# Altium footprint library PcbLib1.PcbLib: 1 footprints
Each footprint in its own frame and in the unit in brackets; x right, y up, seen from the top. Pads: shape width x height; smd on the part's side, far side on the other; paste and mask are expansions set on the pad; w line width, h text height; cw(c..) or ccw(c..) is an arc to the next point about the centre after c.
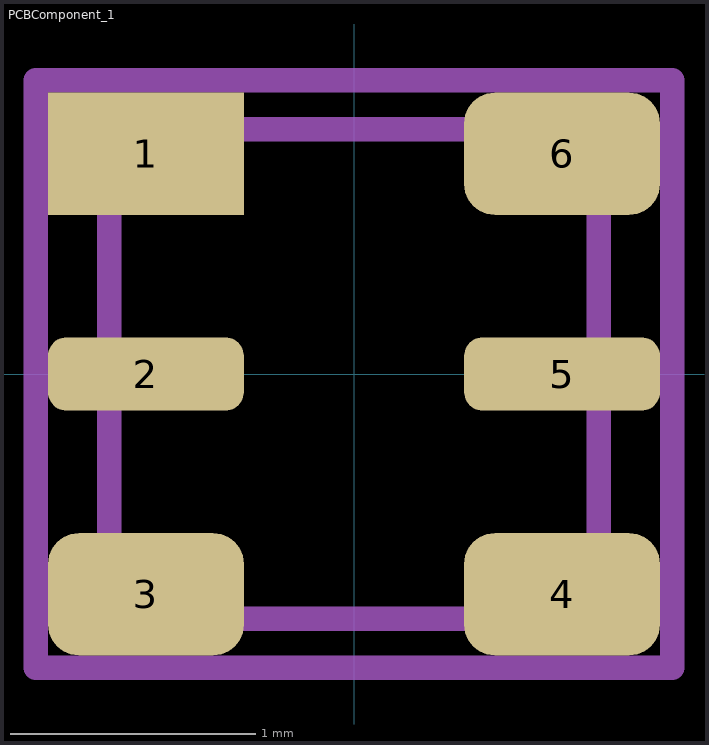
[diagram p0: the footprint, top view; thin cyan lines are the x and y axes]

## PCBComponent_1 [mm]
pads (6):
  rect 0.8x0.5 smd: 1(-0.85,0.9)
  rrect50% 0.8x0.3 smd: 2(-0.85,0) 5(0.85,0)
  rrect50% 0.8x0.5 smd: 3(-0.85,-0.9) 4(0.85,-0.9) 6(0.85,0.9)
Mechanical 13:
  lines w0.1: -1,-1 1,-1 1,1 -1,1 -1,-1
Mechanical 15:
  lines w0.1: -1.3,-1.2 -1.3,1.2 1.3,1.2 1.3,-1.2 -1.3,-1.2
3D body: height 0.9, standoff 0, extent -1,-1 1,1